# EAGLE library part 55510-308TRLF (library mLab_PressureMat)
8-pin SMD female socket
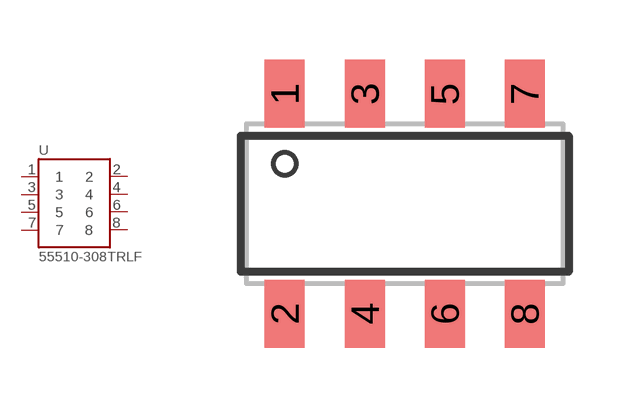
[diagram p0: symbol with the pads of 55510-308TRLF; footprint 55510-308TRLF]

Designator prefix -

## 55510-308TRLF  [55510-308TRLF]
1  1
2  2
3  3
4  4
5  5
6  6
7  7
8  8

## Footprint 55510-308TRLF (pad centres in mm)
8-pin SMD female socket
smd 1 x 1.7: 1 -3,2.75; 2 -3,-2.75; 3 -1,2.75; 4 -1,-2.75; 5 1,2.75; 6 1,-2.75; 7 3,2.75; 8 3,-2.75